# EAGLE library part MAX3221CUE+ (library HomeKinection)
RS-232 Interface IC 1uA 3-5.5V Tcvr w/AutoShutdown
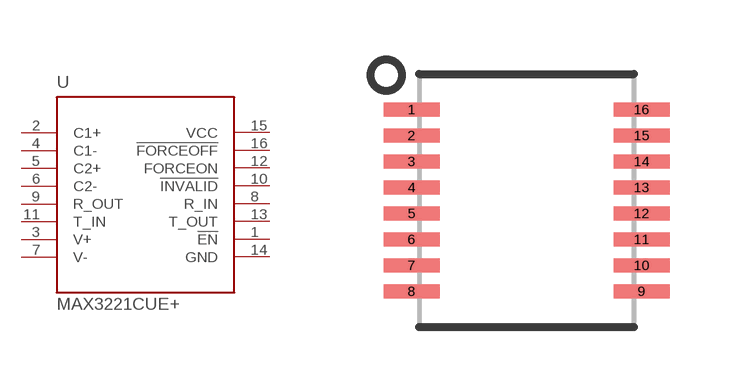
[diagram p7: symbol with the pads of 16TSSOP; footprint 16TSSOP]

Designator prefix -

## MAX3221CUE+  [16TSSOP]
1  !EN  in
2  C1+  pas
3  V+  pas
4  C1-  pas
5  C2+  pas
6  C2-  pas
7  V-  pas
8  R_IN  in
9  R_OUT  out
10  !INVALID  out
11  T_IN  in
12  FORCEON  in
13  T_OUT  out
14  GND  pwr
15  VCC  pwr
16  !FORCEOFF  in

## Footprint 16TSSOP (pad centres in mm)
smd 1.4 x 0.35: 1 -2.875,2.275; 2 -2.875,1.625; 3 -2.875,0.975; 4 -2.875,0.325; 5 -2.875,-0.325; 6 -2.875,-0.975; 7 -2.875,-1.625; 8 -2.875,-2.275; 9 2.875,-2.275; 10 2.875,-1.625; 11 2.875,-0.975; 12 2.875,-0.325; 13 2.875,0.325; 14 2.875,0.975; 15 2.875,1.625; 16 2.875,2.275